# Altium footprint library CH340G.PcbLib: 1 footprints
Each footprint in its own frame and in the unit in brackets; x right, y up, seen from the top. Pads: shape width x height; smd on the part's side, far side on the other; paste and mask are expansions set on the pad; w line width, h text height; cw(c..) or ccw(c..) is an arc to the next point about the centre after c.
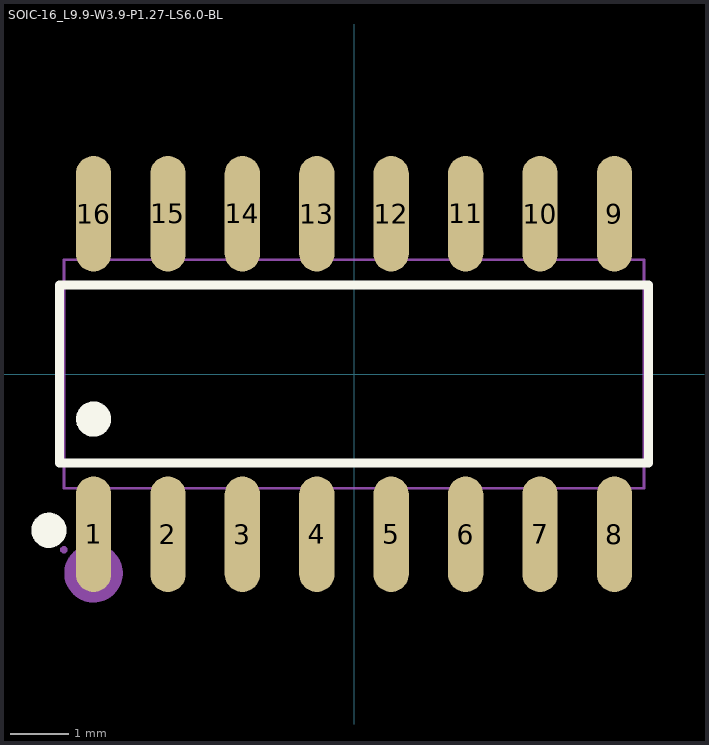
[diagram p0: the footprint, top view; thin cyan lines are the x and y axes]

## SOIC-16_L9.9-W3.9-P1.27-LS6.0-BL [mil]
pads (16):
  oval 23.7x77.6 smd: 1(-175,-107.7) 2(-125,-107.7) 3(-75,-107.7) 4(-25,-107.7) 5(25,-107.7) 6(75,-107.7) 7(125,-107.7) 8(175,-107.7) 9(175,107.7) 10(125,107.7) 11(75,107.7) 12(25,107.7) 13(-25,107.7) 14(-75,107.7) 15(-125,107.7) 16(-175,107.7)
Top Overlay:
  circle w11.81: c-175,-30.28 r5.91
  circle w11.81: c-205,-105 r5.91
  lines w6: -197.88,-59.9 -197.88,59.9 197.88,59.9 197.88,-59.9 -197.88,-59.9
Mechanical 6:
  circle w19.68: c-175,-133.86 r9.84
Mechanical 15:
  drawing of 37 lines, arcs and shapes, not listed
3D body "CH340G.STEP": height 74.3, standoff -0.52, extent -194.05,-118.23 195.71,118.23